# Altium footprint library PLCC-28.PcbLib: 1 footprints
Each footprint in its own frame and in the unit in brackets; x right, y up, seen from the top. Pads: shape width x height; smd on the part's side, far side on the other; paste and mask are expansions set on the pad; w line width, h text height; cw(c..) or ccw(c..) is an arc to the next point about the centre after c.
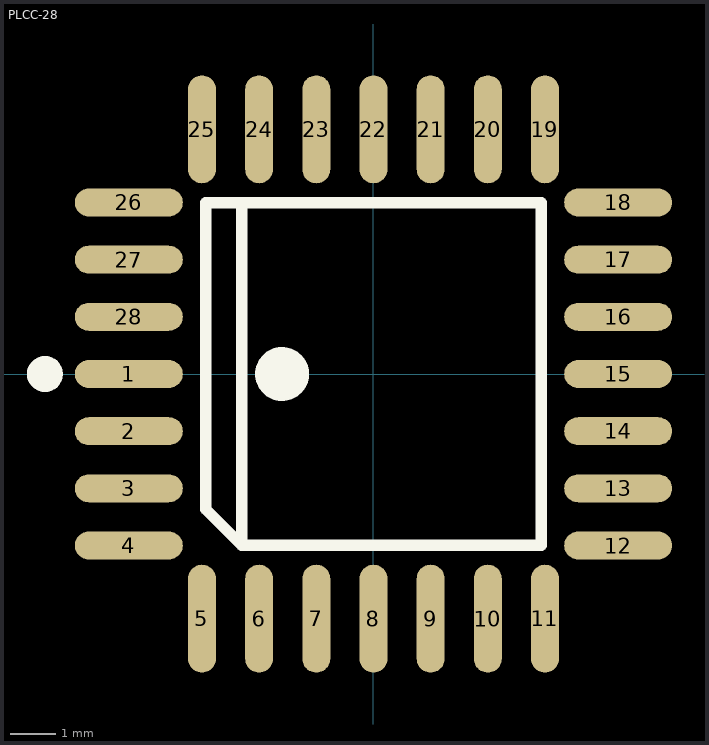
[diagram p0: the footprint, top view; thin cyan lines are the x and y axes]

## PLCC-28 [mm]
pads (28):
  oval 2.4x0.62 smd: 1(-5.435,0) 2(-5.435,-1.27) 3(-5.435,-2.54) 4(-5.435,-3.81) 12(5.435,-3.81) 13(5.435,-2.54) 14(5.435,-1.27) 15(5.435,0) 16(5.435,1.27) 17(5.435,2.54) 18(5.435,3.81) 26(-5.435,3.81) 27(-5.435,2.54) 28(-5.435,1.27)
  oval 0.62x2.4 smd: 5(-3.81,-5.435) 6(-2.54,-5.435) 7(-1.27,-5.435) 8(0,-5.435) 9(1.27,-5.435) 10(2.54,-5.435) 11(3.81,-5.435) 19(3.81,5.435) 20(2.54,5.435) 21(1.27,5.435) 22(0,5.435) 23(-1.27,5.435) 24(-2.54,5.435) 25(-3.81,5.435)
Top Overlay:
  circle w0.4: c-7.3,0 r0.2
  circle w0.6: c-2.03,0 r0.3
  lines w0.254: -2.93,3.8 -2.93,-3.8 ; -2.93,-3.8 -3.73,-3 -3.73,3.8 3.73,3.8 3.73,-3.8 -2.93,-3.8